# Altium footprint library Connector_PinSocket_2.54mm.PcbLib: 8 footprints
Each footprint in its own frame and in the unit in brackets; x right, y up, seen from the top. Pads: shape width x height; smd on the part's side, far side on the other; paste and mask are expansions set on the pad; w line width, h text height; cw(c..) or ccw(c..) is an arc to the next point about the centre after c.
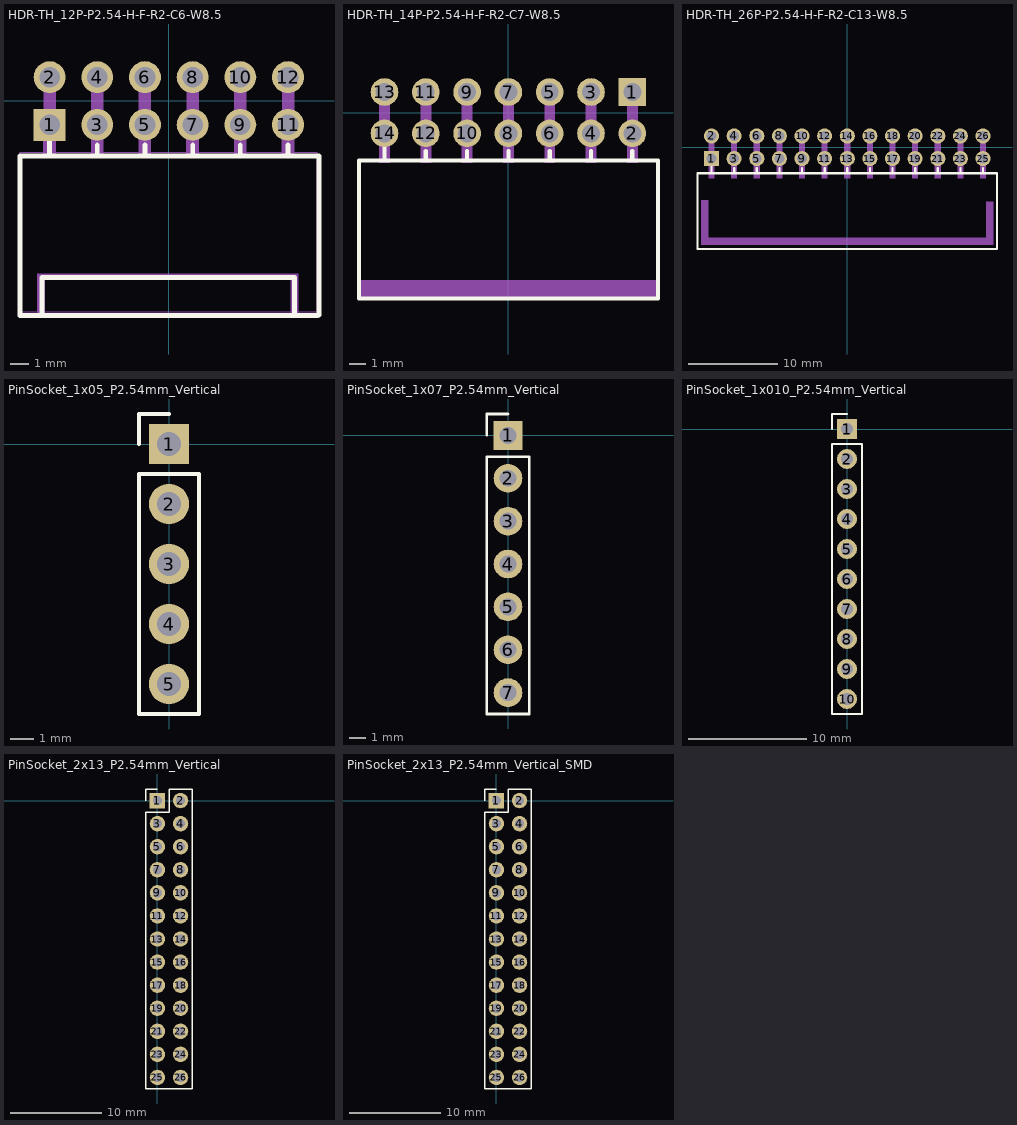
[diagram p0: the footprints below, top view; thin cyan lines are the x and y axes]

## HDR-TH_12P-P2.54-H-F-R2-C6-W8.5 [mm]
pads (12):
  rect 1.7x1.7 hole 1.1 paste+0 mask+0.05: 1(-6.35,-1.27)
  round 1.7 hole 1.1 paste+0 mask+0.05: 2(-6.35,1.27) 3(-3.81,-1.27) 4(-3.81,1.27) 5(-1.27,-1.27) 6(-1.27,1.27) 7(1.27,-1.27) 8(1.27,1.27) 9(3.81,-1.27) 10(3.81,1.27) 11(6.35,-1.27) 12(6.35,1.27)
Top Overlay:
  lines w0.254: -6.758,-11.43 -6.758,-9.4 6.7,-9.4 6.7,-11.43 ; -6.35,-2.93 -6.35,-1.397 ; -3.81,-2.93 -3.81,-2.351 ; -1.27,-2.93 -1.27,-2.351 ; 1.27,-2.93 1.27,-2.351 ; 3.81,-2.93 3.81,-2.351 ; 6.35,-2.93 6.35,-2.351 ; 7.92,-11.43 -7.92,-11.43 -7.92,-2.93 7.92,-2.93 ; 8.001,-11.421 8.001,-2.921
Mechanical 2:
  region: -7,-11.4 -7.01,-9.21 -7,-9.2 6.9,-9.2 6.9,-11.5 6.5,-11.5 6.5,-9.5 -6.6,-9.5 -6.6,-11.4
Mechanical 5:
  lines w0.051: -7.92,-11.23 7.92,-11.23 7.92,-2.73 -7.92,-2.73 -7.92,-11.23
Mechanical 6:
  region: 6.03,1.47 6.67,1.47 6.67,-2.82 6.02,-2.82
  region: 3.49,1.47 4.13,1.47 4.13,-2.82 3.48,-2.82
  region: 0.95,1.47 1.59,1.47 1.59,-2.82 0.94,-2.82
  region: -1.59,1.47 -0.95,1.47 -0.95,-2.82 -1.6,-2.82
  region: -4.13,1.47 -3.49,1.47 -3.49,-2.82 -4.14,-2.82
  region: -6.67,1.47 -6.03,1.47 -6.03,-2.82 -6.68,-2.82
Mechanical 7:
  region: -7.86,-11.23 -7.86,-11.255 -7.895,-11.29 -7.945,-11.29 -7.98,-11.255 -7.98,-11.23 -7.98,-11.205 -7.945,-11.17 -7.895,-11.17 -7.86,-11.205 -7.86,-11.23
Mechanical 8:
  region: 6.03,1.47 6.67,1.47 6.67,1.07 6.03,1.07
  region: 6.03,-1.07 6.67,-1.07 6.67,-1.47 6.03,-1.47
  region: 3.49,1.47 4.13,1.47 4.13,1.07 3.49,1.07
  region: 3.49,-1.07 4.13,-1.07 4.13,-1.47 3.49,-1.47
  region: 0.95,1.47 1.59,1.47 1.59,1.07 0.95,1.07
  region: 0.95,-1.07 1.59,-1.07 1.59,-1.47 0.95,-1.47
  region: -1.59,1.47 -0.95,1.47 -0.95,1.07 -1.59,1.07
  region: -1.59,-1.07 -0.95,-1.07 -0.95,-1.47 -1.59,-1.47
  region: -4.13,1.47 -3.49,1.47 -3.49,1.07 -4.13,1.07
  region: -4.13,-1.07 -3.49,-1.07 -3.49,-1.47 -4.13,-1.47
  region: -6.67,1.47 -6.03,1.47 -6.03,1.07 -6.67,1.07
  region: -6.67,-1.07 -6.03,-1.07 -6.03,-1.47 -6.67,-1.47
3D body "未命名-EasyEDA PCB Model~PjvOHDR-TH_12P-P2.54-H-F-R2-C6-W8.5~HDR-TH_12P-P2.54-H-F-R2-C6-W8.5~vnEs013.step": height 5, standoff -3.2, extent -7.92,-11.1 7.92,1.6

## HDR-TH_14P-P2.54-H-F-R2-C7-W8.5 [mm]
pads (14):
  rect 1.7x1.7 hole 1.1 paste+0 mask+0.05: 1(7.62,1.27)
  round 1.7 hole 1.1 paste+0 mask+0.05: 2(7.62,-1.27) 3(5.08,1.27) 4(5.08,-1.27) 5(2.54,1.27) 6(2.54,-1.27) 7(0,1.27) 8(0,-1.27) 9(-2.54,1.27) 10(-2.54,-1.27) 11(-5.08,1.27) 12(-5.08,-1.27) 13(-7.62,1.27) 14(-7.62,-1.27)
Top Overlay:
  lines w0.254: -7.62,-2.93 -7.62,-1.397 ; -5.08,-2.93 -5.08,-2.351 ; -2.54,-2.93 -2.54,-2.351 ; 0,-2.93 0,-2.351 ; 2.54,-2.93 2.54,-2.351 ; 5.08,-2.93 5.08,-2.351 ; 7.62,-2.93 7.62,-2.351 ; -9.19,-11.43 9.19,-11.43 9.19,-2.93 -9.19,-2.93 -9.19,-11.43
Mechanical 6:
  region: -9.1,-10.3 9.2,-10.3 9.2,-11.4 -9.1,-11.4 -9.1,-11.2
Mechanical 15:
  region: -9.13,-11.447 -9.13,-11.422 -9.165,-11.387 -9.215,-11.387 -9.25,-11.422 -9.25,-11.447 -9.25,-11.471 -9.215,-11.506 -9.165,-11.506 -9.13,-11.471 -9.13,-11.447
  region: -7.94,-1.07 -7.3,-1.07 -7.3,-1.47 -7.94,-1.47
  region: -7.94,1.47 -7.3,1.47 -7.3,1.07 -7.94,1.07
  region: -5.4,-1.07 -4.76,-1.07 -4.76,-1.47 -5.4,-1.47
  region: -5.4,1.47 -4.76,1.47 -4.76,1.07 -5.4,1.07
  region: -2.86,-1.07 -2.22,-1.07 -2.22,-1.47 -2.86,-1.47
  region: -2.86,1.47 -2.22,1.47 -2.22,1.07 -2.86,1.07
  region: -0.32,-1.07 0.32,-1.07 0.32,-1.47 -0.32,-1.47
  region: -0.32,1.47 0.32,1.47 0.32,1.07 -0.32,1.07
  region: 2.22,-1.07 2.86,-1.07 2.86,-1.47 2.22,-1.47
  region: 2.22,1.47 2.86,1.47 2.86,1.07 2.22,1.07
  region: 4.76,-1.07 5.4,-1.07 5.4,-1.47 4.76,-1.47
  region: 4.76,1.47 5.4,1.47 5.4,1.07 4.76,1.07
  region: 7.3,-1.07 7.94,-1.07 7.94,-1.47 7.3,-1.47
  region: 7.3,1.47 7.94,1.47 7.94,1.07 7.3,1.07
  region: -7.94,-3.075 -7.94,1.475 -7.3,1.475 -7.3,-3.075
  region: -5.4,-3.075 -5.4,1.475 -4.76,1.475 -4.76,-3.075
  region: -2.86,-3.075 -2.86,1.475 -2.22,1.475 -2.22,-3.075
  region: -0.32,-3.075 -0.32,1.475 0.32,1.475 0.32,-3.075
  region: 2.22,-3.075 2.22,1.475 2.86,1.475 2.86,-3.075
  region: 4.76,-3.075 4.76,1.475 5.4,1.475 5.4,-3.075
  region: 7.3,-3.075 7.3,1.475 7.94,1.475 7.94,-3.075
  lines w0.051: -9.19,-11.447 -9.19,-2.947 9.19,-2.947 9.19,-11.447 -9.19,-11.447
3D body "PCBModelHDMI-SMD_HDMI-101S.step": height 5.1, standoff -3.1, extent -9.19,-11.175 9.2,1.525

## HDR-TH_26P-P2.54-H-F-R2-C13-W8.5 [mm]
pads (26):
  rect 1.7x1.7 hole 1.1 mask+0.05: 1(-15.24,-1.27)
  round 1.7 hole 1.1 mask+0.05: 2(-15.24,1.27) 3(-12.7,-1.27) 4(-12.7,1.27) 5(-10.16,-1.27) 6(-10.16,1.27) 7(-7.62,-1.27) 8(-7.62,1.27) 9(-5.08,-1.27) 10(-5.08,1.27) 11(-2.54,-1.27) 12(-2.54,1.27) 13(0,-1.27) 14(0,1.27) 15(2.54,-1.27) 16(2.54,1.27) 17(5.08,-1.27) 18(5.08,1.27) 19(7.62,-1.27) 20(7.62,1.27) 21(10.16,-1.27) 22(10.16,1.27) 23(12.7,-1.27) 24(12.7,1.27) 25(15.24,-1.27) 26(15.24,1.27)
Top Overlay:
  lines w0.254: -15.24,-2.93 -15.24,-1.397 ; -12.7,-2.93 -12.7,-2.351 ; -10.16,-2.93 -10.16,-2.351 ; -7.62,-2.93 -7.62,-2.351 ; -5.08,-2.93 -5.08,-2.351 ; -2.54,-2.93 -2.54,-2.351 ; 0,-2.93 0,-2.351 ; 2.54,-2.93 2.54,-2.351 ; 5.08,-2.93 5.08,-2.351 ; 7.62,-2.93 7.62,-2.351 ; 10.16,-2.93 10.16,-2.351 ; 12.7,-2.93 12.7,-2.351 ; 15.24,-2.93 15.24,-2.351 ; -16.81,-11.43 16.81,-11.43 16.81,-2.93 -16.81,-2.93 -16.81,-11.43
Mechanical 6:
  region: 16.383,-6.096 16.383,-10.922 -16.383,-10.922 -16.383,-5.969 -15.621,-5.969 -15.621,-10.16 15.621,-10.16 15.621,-6.096
Mechanical 15:
  drawing of 44 lines, arcs and shapes, not listed
3D body "U1.stp": height 4.88, standoff -3.32, extent -16.81,-11.196 16.82,1.504

## PinSocket_1x05_P2.54mm_Vertical [mm]
pads (5):
  rect 1.7x1.7 hole 1: 1(0,0)
  round 1.7 hole 1: 2(0,-2.54) 3(0,-5.08) 4(0,-7.62) 5(0,-10.16)
Top Overlay:
  lines w0.152: -1.27,0 -1.27,1.27 0,1.27 ; -1.27,-11.43 1.27,-11.43 1.27,-1.27 -1.27,-1.27 -1.27,-11.43
3D body "PinSocket_1x05_P2.54mm_Vertical.step": height 7, standoff -3.1, extent -1.27,-11.43 1.27,1.27

## PinSocket_1x07_P2.54mm_Vertical [mm]
pads (7):
  rect 1.7x1.7 hole 1: 1(0,0)
  round 1.7 hole 1: 2(0,-2.54) 3(0,-5.08) 4(0,-7.62) 5(0,-10.16) 6(0,-12.7) 7(0,-15.24)
Top Overlay:
  lines w0.152: -1.27,0 -1.27,1.27 0,1.27 ; -1.27,-16.51 -1.27,-1.27 1.27,-1.27 1.27,-16.51 -1.27,-16.51
3D body "PinSocket_1x07_P2.54mm_Vertical.step": height 7, standoff -3.1, extent -1.27,-16.51 1.27,1.27

## PinSocket_1x010_P2.54mm_Vertical [mm]
pads (10):
  rect 1.7x1.7 hole 1: 1(0,0)
  round 1.7 hole 1: 2(0,-2.54) 3(0,-5.08) 4(0,-7.62) 5(0,-10.16) 6(0,-12.7) 7(0,-15.24) 8(0,-17.78) 9(0,-20.32) 10(0,-22.86)
Top Overlay:
  lines w0.152: -1.27,0 -1.27,1.27 0,1.27 ; -1.27,-24.13 -1.27,-1.27 1.27,-1.27 1.27,-24.13 -1.27,-24.13
3D body "PinSocket_1x10_P2.54mm_Vertical.step": height 7, standoff -3.1, extent -1.27,-24.13 1.27,1.27

## PinSocket_2x13_P2.54mm_Vertical [mm]
pads (26):
  rect 1.7x1.7 hole 1: 1(0,0)
  round 1.7 hole 1: 2(2.54,0) 3(0,-2.54) 4(2.54,-2.54) 5(0,-5.08) 6(2.54,-5.08) 7(0,-7.62) 8(2.54,-7.62) 9(0,-10.16) 10(2.54,-10.16) 11(0,-12.7) 12(2.54,-12.7) 13(0,-15.24) 14(2.54,-15.24) 15(0,-17.78) 16(2.54,-17.78) 17(0,-20.32) 18(2.54,-20.32) 19(0,-22.86) 20(2.54,-22.86) 21(0,-25.4) 22(2.54,-25.4) 23(0,-27.94) 24(2.54,-27.94) 25(0,-30.48) 26(2.54,-30.48)
Top Overlay:
  lines w0.152: -1.27,0 -1.27,1.27 0,1.27 ; -1.27,-31.75 3.81,-31.75 3.81,-1.27 3.81,1.27 1.27,1.27 1.27,-1.27 -1.27,-1.27 -1.27,-31.75
3D body "PinSocket_2x13_P2.54mm_Vertical.step": height 7, standoff -3.1, extent -1.27,-31.75 3.81,1.27

## PinSocket_2x13_P2.54mm_Vertical_SMD [mm]
pads (26):
  rect 1.7x1.7 hole 1: 1(0,0)
  round 1.7 hole 1: 2(2.54,0) 3(0,-2.54) 4(2.54,-2.54) 5(0,-5.08) 6(2.54,-5.08) 7(0,-7.62) 8(2.54,-7.62) 9(0,-10.16) 10(2.54,-10.16) 11(0,-12.7) 12(2.54,-12.7) 13(0,-15.24) 14(2.54,-15.24) 15(0,-17.78) 16(2.54,-17.78) 17(0,-20.32) 18(2.54,-20.32) 19(0,-22.86) 20(2.54,-22.86) 21(0,-25.4) 22(2.54,-25.4) 23(0,-27.94) 24(2.54,-27.94) 25(0,-30.48) 26(2.54,-30.48)
Top Overlay:
  lines w0.152: -1.27,0 -1.27,1.27 0,1.27 ; -1.27,-31.75 3.81,-31.75 3.81,-1.27 3.81,1.27 1.27,1.27 1.27,-1.27 -1.27,-1.27 -1.27,-31.75
3D body "PinSocket_2x13_P2.54mm_Vertical_SMD.step": height 7.3, standoff 0, extent -2.7,-31.75 5.24,1.27